# EAGLE library part RPI-GPIO_CONNECTOR (library PiB_connectors)
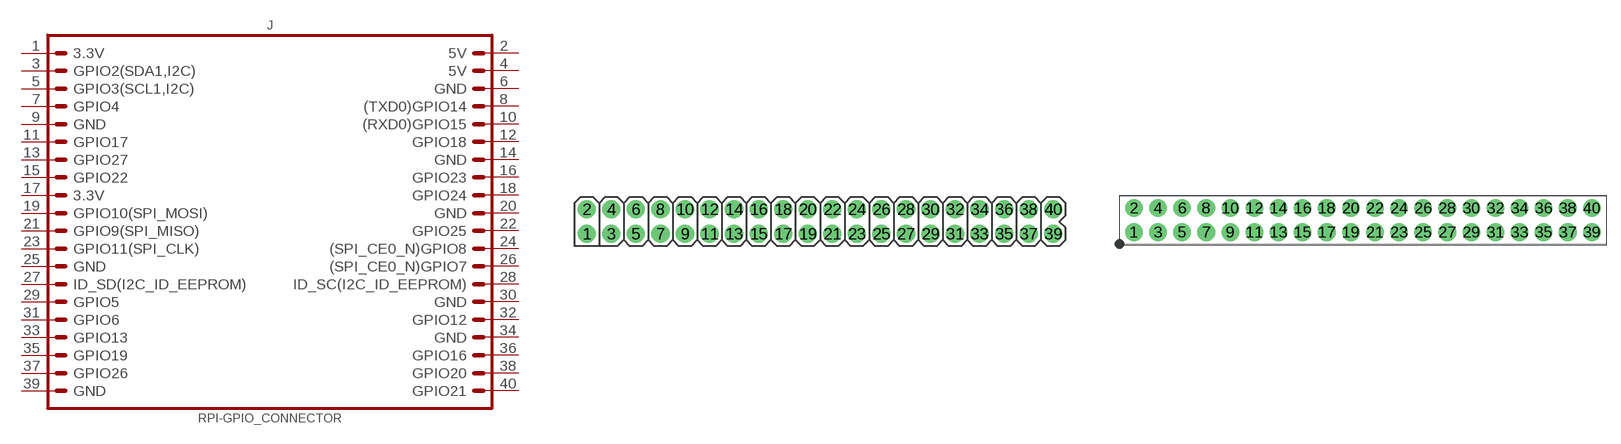
[diagram p6: symbol with the pads of RPI-GPIO_CONNECTOR_TALL; footprints RPI-GPIO_CONNECTOR_TALL, HDRVR40W64P254_2X20_5130X500X1350B]

Designator prefix J

## RPI-GPIO_CONNECTOR (CREATOR: MrSwirlyEyes; DATASHEET: https://media.digikey.com/pdf/Data%20Sheets/Sparkfun%20PDFs/PRT-14017_Web.pdf; DIST: Digikey; DISTLINK: https://www.digikey.com/products/en?keywords=1568-1462-ND; DISTPN: 1568-1462-ND; MFR: Sparkfun Electronics; MPN: PRT-14017; TESTED: NO; VALUE: RPI-GPIO)  [RPI-GPIO_CONNECTOR_TALL]
1  3.3V
2  5V
3  GPIO2(SDA1,I2C)
4  5V
5  GPIO3(SCL1,I2C)
6  GND
7  GPIO4
8  (TXD0)GPIO14
9  GND
10  (RXD0)GPIO15
11  GPIO17
12  GPIO18
13  GPIO27
14  GND
15  GPIO22
16  GPIO23
17  3.3V
18  GPIO24
19  GPIO10(SPI_MOSI)
20  GND
21  GPIO9(SPI_MISO)
22  GPIO25
23  GPIO11(SPI_CLK)
24  (SPI_CE0_N)GPIO8
25  GND
26  (SPI_CE0_N)GPIO7
27  ID_SD(I2C_ID_EEPROM)
28  ID_SC(I2C_ID_EEPROM)
29  GPIO5
30  GND
31  GPIO6
32  GPIO12
33  GPIO13
34  GND
35  GPIO19
36  GPIO16
37  GPIO26
38  GPIO20
39  GND
40  GPIO21

## RPI-GPIO_CONNECTOR_PTH_VERT_FEMALE_2.54MM (DATASHEET: https://cdn.sparkfun.com/datasheets/Dev/RaspberryPi/12313.pdf; DIST: Digikey; DISTLINK: https://www.digikey.com/products/en?keywords=1568-1462-ND; DISTPN: 1568-1462-ND; MFR: SparkFun Electronics; MPN: PRT-14017; VALUE: Raspberry Pi GPIO)  [HDRVR40W64P254_2X20_5130X500X1350B]
1  GND
2  GPIO21
3  GPIO26
4  GPIO20
5  GPIO19
6  GPIO16
7  GPIO13
8  GND
9  GPIO6
10  GPIO12
11  GPIO5
12  GND
13  ID_SD(I2C_ID_EEPROM)
14  ID_SC(I2C_ID_EEPROM)
15  GND
16  (SPI_CE0_N)GPIO7
17  GPIO11(SPI_CLK)
18  (SPI_CE0_N)GPIO8
19  GPIO9(SPI_MISO)
20  GPIO25
21  GPIO10(SPI_MOSI)
22  GND
23  3.3V
24  GPIO24
25  GPIO22
26  GPIO23
27  GPIO27
28  GND
29  GPIO17
30  GPIO18
31  GND
32  (RXD0)GPIO15
33  GPIO4
34  (TXD0)GPIO14
35  GPIO3(SCL1,I2C)
36  GND
37  GPIO2(SDA1,I2C)
38  5V
39  3.3V
40  5V

## Footprint RPI-GPIO_CONNECTOR_TALL (pad centres in mm)
drill 1.016 pad 1.88: 1 -24.13,-1.27; 2 -24.13,1.27; 3 -21.59,-1.27; 4 -21.59,1.27; 5 -19.05,-1.27; 6 -19.05,1.27; 7 -16.51,-1.27; 8 -16.51,1.27; 9 -13.97,-1.27; 10 -13.97,1.27; 11 -11.43,-1.27; 12 -11.43,1.27; 13 -8.89,-1.27; 14 -8.89,1.27; 15 -6.35,-1.27; 16 -6.35,1.27; 17 -3.81,-1.27; 18 -3.81,1.27; 19 -1.27,-1.27; 20 -1.27,1.27; 21 1.27,-1.27; 22 1.27,1.27; 23 3.81,-1.27; 24 3.81,1.27; 25 6.35,-1.27; 26 6.35,1.27; 27 8.89,-1.27; 28 8.89,1.27; 29 11.43,-1.27; 30 11.43,1.27; 31 13.97,-1.27; 32 13.97,1.27; 33 16.51,-1.27; 34 16.51,1.27; 35 19.05,-1.27; 36 19.05,1.27; 37 21.59,-1.27; 38 21.59,1.27; 39 24.13,-1.27; 40 24.13,1.27

## Footprint HDRVR40W64P254_2X20_5130X500X1350B (pad centres in mm)
Double-row, 40-pin Receptacle Header (Female) Straight, 2.54 mm (0.10 in) row pitch, 2.54 mm (0.10 in) col pitch, 13.50 mm insulator length, 51.30 X 5.00 X 13.50 mm body Double-row (2X20), 40-pin Receptacle Header (Female) Straight package with 2.54 mm (0.10 in) row pitch, 2.54 mm (0.10 in) col pitch, 0.64 mm lead width, 3.00 mm tail length and 13.50 mm insulator length with overall size 51.30 X 5.00 X 13.50 mm, pin pattern - zigzag from bottom left
drill 1 pad 1.85: 1 0,0; 2 0,2.54; 3 2.54,0; 4 2.54,2.54; 5 5.08,0; 6 5.08,2.54; 7 7.62,0; 8 7.62,2.54; 9 10.16,0; 10 10.16,2.54; 11 12.7,0; 12 12.7,2.54; 13 15.24,0; 14 15.24,2.54; 15 17.78,0; 16 17.78,2.54; 17 20.32,0; 18 20.32,2.54; 19 22.86,0; 20 22.86,2.54; 21 25.4,0; 22 25.4,2.54; 23 27.94,0; 24 27.94,2.54; 25 30.48,0; 26 30.48,2.54; 27 33.02,0; 28 33.02,2.54; 29 35.56,0; 30 35.56,2.54; 31 38.1,0; 32 38.1,2.54; 33 40.64,0; 34 40.64,2.54; 35 43.18,0; 36 43.18,2.54; 37 45.72,0; 38 45.72,2.54; 39 48.26,0; 40 48.26,2.54